# EAGLE library part LM2734 (library Microchip-Tim)
1A Step Down Switcher
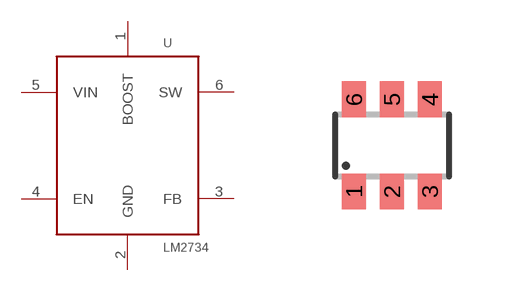
[diagram p6: symbol with the pads of SOT23-6; footprint SOT23-6]

Designator prefix -

## LM2734  [SOT23-6]
1  BOOST  pas
2  GND  pwr
3  FB  pas
4  EN  in
5  VIN  pas
6  SW  pas

## Footprint SOT23-6 (pad centres in mm)
smd 0.6 x 0.9: 1 -0.95,-1.15; 2 0,-1.15; 3 0.95,-1.15; 4 0.95,1.15; 5 0,1.15; 6 -0.95,1.15